# EAGLE library part TPA6120 (library common)
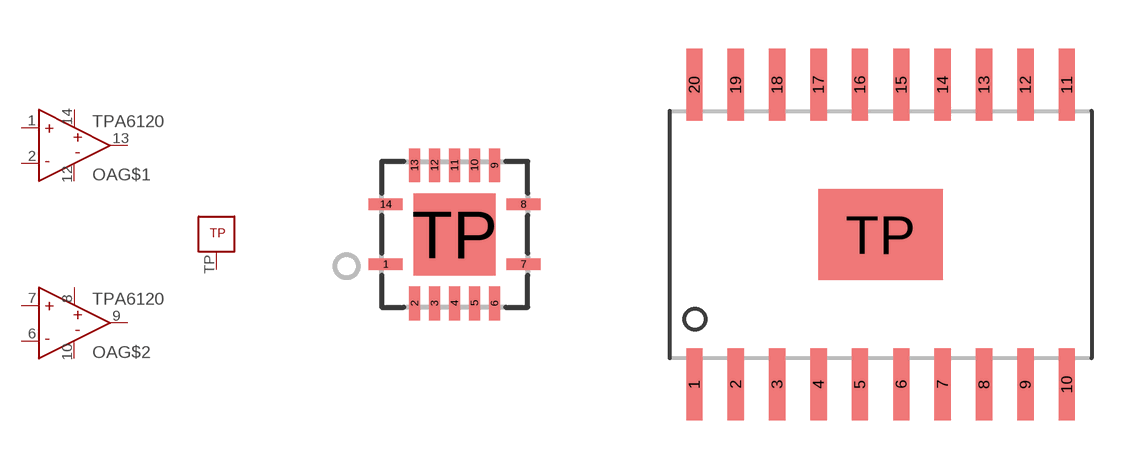
[diagram p10: symbol with the pads of S-PVQFN-N14; footprints S-PVQFN-N14, R-PDSO-G20]

Designator prefix OA; gates G$1=TPA6120 G$2=TPA6120 G$3=TPA6120_TP

## TPA6120QFN  [S-PVQFN-N14]
1  G$1:IN+
2  G$1:IN-
6  G$2:IN-
7  G$2:IN+
8  G$2:V+
9  G$2:OUT
10  G$2:V-
12  G$1:V-
13  G$1:OUT
14  G$1:V+
TP  G$3:TP

## TPA6120SOIC  [R-PDSO-G20]
1  G$1:V-
2  G$1:OUT
3  G$1:V+
4  G$1:IN+
5  G$1:IN-
16  G$2:IN-
17  G$2:IN+
18  G$2:V+
19  G$2:OUT
20  G$2:V-
TP  G$3:TP

## Footprint S-PVQFN-N14 (pad centres in mm)
smd 0.85 x 0.28: 1 -1.725,-0.75; 7 1.725,-0.75; 8 1.725,0.75; 14 -1.725,0.75
smd 0.28 x 0.85: 2 -1,-1.725; 3 -0.5,-1.725; 4 0,-1.725; 5 0.5,-1.725; 6 1,-1.725; 9 1,1.725; 10 0.5,1.725; 11 0,1.725; 12 -0.5,1.725; 13 -1,1.725
smd 2.05 x 2.05: TP 0,0

## Footprint R-PDSO-G20 (pad centres in mm)
smd 0.5 x 2.2: 1 -5.715,-4.6; 2 -4.445,-4.6; 3 -3.175,-4.6; 4 -1.905,-4.6; 5 -0.635,-4.6; 6 0.635,-4.6; 7 1.905,-4.6; 8 3.175,-4.6; 9 4.445,-4.6; 10 5.715,-4.6; 11 5.715,4.6; 12 4.445,4.6; 13 3.175,4.6; 14 1.905,4.6; 15 0.635,4.6; 16 -0.635,4.6; 17 -1.905,4.6; 18 -3.175,4.6; 19 -4.445,4.6; 20 -5.715,4.6
smd 3.81 x 2.79: TP 0,0